# EAGLE library part TDA7266 (library Synapseware)
7+7W DUAL BRIDGE AMPLIFIER The TDA7266 is a dual bridge amplifier specially designed for TV and Portable Radio applications.
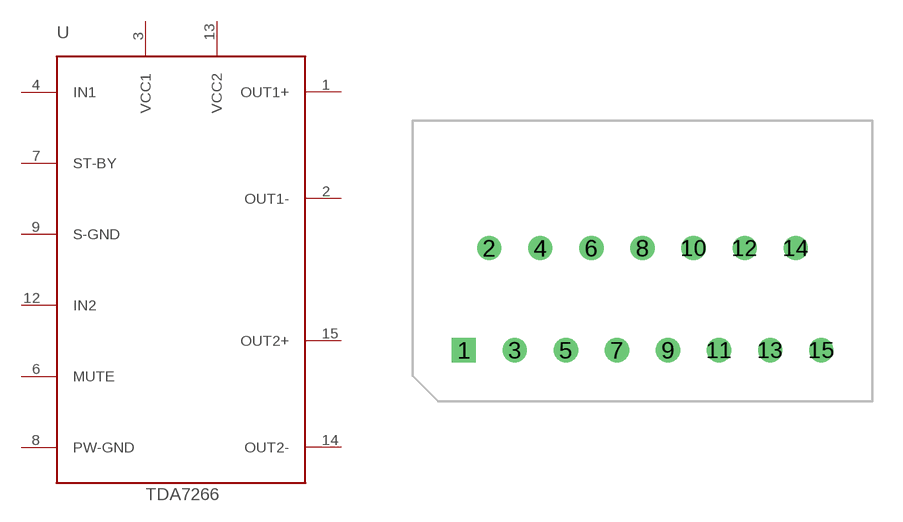
[diagram p3: symbol with the pads of MULTIWATT-15; footprint MULTIWATT-15]

Designator prefix -

## TDA7266TDA7266-MW15  [MULTIWATT-15]
1  OUT1+
2  OUT1-
3  VCC1
4  IN1
6  MUTE
7  ST-BY
8  PW-GND
9  S-GND
12  IN2
13  VCC2
14  OUT2-
15  OUT2+

## Footprint MULTIWATT-15 (pad centres in mm)
MULTIWATT-15
drill 0.7 square: 1 -8.89,-2.54
drill 0.7: 2 -7.62,2.54; 3 -6.35,-2.54; 4 -5.08,2.54; 5 -3.81,-2.54; 6 -2.54,2.54; 7 -1.27,-2.54; 8 0,2.54; 9 1.27,-2.54; 10 2.54,2.54; 11 3.81,-2.54; 12 5.08,2.54; 13 6.35,-2.54; 14 7.62,2.54; 15 8.89,-2.54